# EAGLE library part LMP8645 (library Shared Libraries)
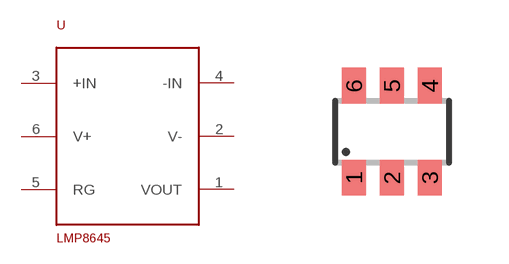
[diagram p0: symbol with the pads of SOT23-6; footprint SOT23-6]

Designator prefix -

## LMP8645  [SOT23-6]
1  VOUT
2  V-
3  +IN
4  -IN
5  RG
6  V+

## Footprint SOT23-6 (pad centres in mm)
Small Outline Transistor 6 lead
smd 0.6 x 0.9: 1 -0.95,-1.15; 2 0,-1.15; 3 0.95,-1.15; 4 0.95,1.15; 5 0,1.15; 6 -0.95,1.15